# Altium schematic symbol library EstacionMetereologicaSCH.SchLib: 7 symbols
Pins are listed as number, name and electrical type; pins without a type are passive.

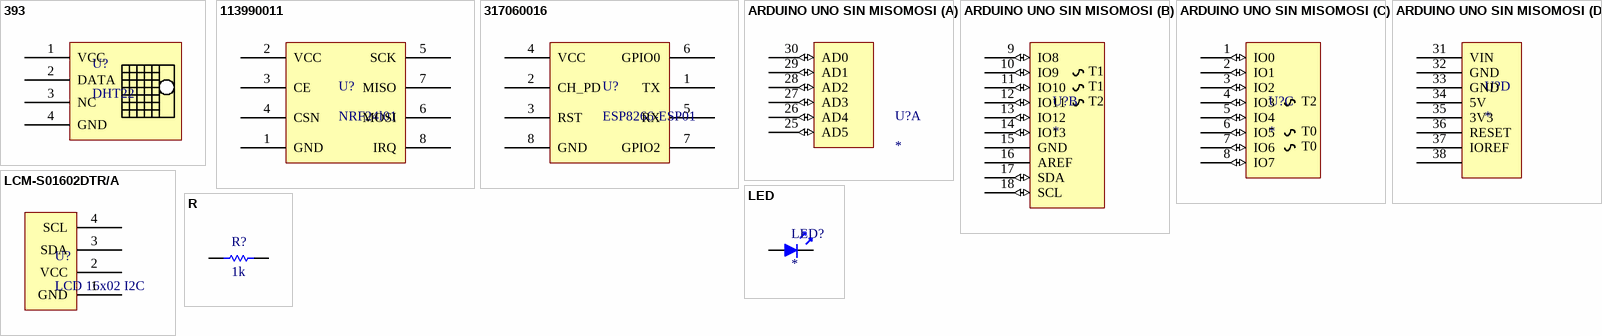
[diagram p0: symbols 393 to R]

## 393
designator U?, comment DHT22
SENSOR TEMP/HUMIDTY AM2302 DHT22; Manufacturer: Adafruit Industries LLC; Manufacturer Part Number: 393; Sensor Type: Humidity, Temperature; Humidity Range: 0 ~ 100% RH; Output Type: Digital; Output: 8b; Accuracy: ±2%; Response Time: 2s; Voltage - Supply: 3.3 V ~ 5.5 V; Supplier 1: Digi-Key; RoHS: RoHS Compliant; Category: Sensors, Transducers; Stock 1: 121; Pricing 1: 1=15, 10=13.5 (USD); Sensitivity: -; Mounting Type: Chassis Mount; Operating Temperature: -40°C ~ 80°C; ComponentLink1URL: http://www.adafruit.com/datasheets/Digital%20humidity%20and%20temperature%20sensor%20AM2302.pdf; ComponentLink1Description: http://www.adafruit.com/datasheets/Digital%20humidity%20and%20temperature%20sensor%20AM2302.pdf; Supplier Part Number 1: 1528-1229-ND
footprint DHT22
pins: 1 VCC, 2 DATA, 3 NC, 4 GND

## 113990011
designator U?, comment NRF24l01
NRF24L01+MODULE; Manufacturer: Seeed Technology Co., Ltd; Manufacturer Part Number: 113990011; RF Family/Standard: General ISM > 1GHZ; Modulation: GFSK; Frequency: 2.4GHz; Data Rate: 2Mbps; Power - Output: 0dBm; Sensitivity: -85dBm; Serial Interfaces: SPI; Antenna Type: Integrated, Trace; Voltage - Supply: 1.9 V ~ 3.6 V; Current - Receiving: 12.3mA; Current - Transmitting: 11.3mA; Supplier 1: Digi-Key; RoHS: RoHS Compliant; Category: RF/IF and RFID; Stock 1: 188; Pricing 1: 1=2.9 (USD); Packaging: Bulk; Protocol: -; Memory Size: -; Mounting Type: Surface Mount; Operating Temperature: -40°C ~ 85°C; Package / Case: 8-SMD Module; ComponentLink1URL: http://www.seeedstudio.com/document/pdf/DS_nRF24L01.pdf; ComponentLink1Description: http://www.seeedstudio.com/document/pdf/DS_nRF24L01.pdf; Supplier Part Number 1: 1597-1352-ND
pins: 1 GND, 2 VCC, 3 CE, 4 CSN, 5 SCK, 6 MOSI, 7 MISO, 8 IRQ

## 317060016
designator U?, comment ESP8266-ESP01
TXRX WIFI SER 1M ESP8266 32QFN; Manufacturer: Seeed Technology Co., Ltd; Manufacturer Part Number: 317060016; Protocol: 802.11b/g/n; Frequency: 2.4GHz ~ 2.48GHz; Data Rate: 72.2Mbps; Power - Output: 15dBm; Sensitivity: -98dBm; Serial Interfaces: SPI, UART; Antenna Type: Integrated, Trace; Voltage - Supply: 3.3V; Current - Receiving: 62mA; Current - Transmitting: 215mA; Supplier 1: Digi-Key; RoHS: RoHS Compliant; Category: RF/IF and RFID; Stock 1: 476; Pricing 1: 1=6.95 (USD); Packaging: Bulk; RF Family/Standard: WiFi; Modulation: -; Memory Size: -; Mounting Type: Surface Mount; Operating Temperature: -20°C ~ 100°C; Package / Case: Module; ComponentLink1URL: http://media.digikey.com/pdf/Data%20Sheets/Seeed%20Technology/317060016_Web.pdf; ComponentLink1Description: http://media.digikey.com/pdf/Data%20Sheets/Seeed%20Technology/317060016_Web.pdf; Supplier Part Number 1: 1597-1145-ND
footprint ESP8266
pins: 1 TX, 2 CH_PD, 3 RST, 4 VCC, 5 RX, 6 GPIO0, 7 GPIO2, 8 GND

## ARDUINO UNO SIN MISOMOSI
designator U?
footprint ARDUINO_SHIELD_SIN_MALE
part A pins: 25 AD5 (io), 26 AD4 (io), 27 AD3 (io), 28 AD2 (io), 29 AD1 (io), 30 AD0 (io)
part B pins: 9 IO8 (io), 10 IO9 (io), 11 IO10 (io), 12 IO11 (io), 13 IO12 (io), 14 IO13 (io), 15 GND (power), 16 AREF, 17 SDA (io), 18 SCL (io)
part C pins: 1 IO0 (io), 2 IO1 (io), 3 IO2 (io), 4 IO3 (io), 5 IO4 (io), 6 IO5 (io), 7 IO6 (io), 8 IO7 (io)
part D pins: 31 VIN (power), 32 GND (power), 33 GND (power), 34 5V (power), 35 3V3 (power), 36 RESET, 37 IOREF (power), 38
part B text: T1; T2
part C text: T2; T0

## LCM-S01602DTR/A
designator U?, comment LCD 16x02 I2C
LCD MODULE 16X2 CHARACTER; Manufacturer: Lumex Opto/Components Inc.; Manufacturer Part Number: LCM-S01602DTR/A; Number of Characters: 32; Character Format: 5 x 8 Dots; Display Type: TN - Twisted Nematic; Display Mode: Reflective; Character Size: 5.56mm H x 2.96mm W; Outline L x W x H: 80.00mm x 36.00mm x 8.80mm; Viewing Area: 66.00mm L x 16.00mm W; Backlight: Without Backlight; Voltage - Supply: 5V; Dot Size: 0.56mm W x 0.66mm H; Interface: Parallel; Background Color: Green; Supplier 1: Digi-Key; RoHS: RoHS Compliant; Category: Optoelectronics; Stock 1: 521; Pricing 1: 1=12.93, 10=11.707, 100=7.8048, 250=7.317, 500=6.70726, 1000=6.3414, 2500=6.0975, 5000=5.97555, 10000=5.8536 (USD); Display Format: 16 x 2; Operating Temperature: 0°C ~ 50°C; Text Color: -; ComponentLink1URL: http://media.digikey.com/pdf/Data%20Sheets/Lumex%20PDFs/LCM-x01602Dxx+A-page1%5B1%5D.pdf; ComponentLink1Description: http://media.digikey.com/pdf/Data%20Sheets/Lumex%20PDFs/LCM-x01602Dxx+A-page1%5B1%5D.pdf; Supplier Part Number 1: 67-1779-ND
footprint LCD I2C
pins: 1 GND, 2 VCC, 3 SDA, 4 SCL

## LED
designator LED?
LED; .Creator: SR; .PCBCheck: Used; .SCHCheck: Used
footprint LED 1206
pins: 1 A, 2 K

## R
designator R?, comment 1k
Resistencia; .Creator: SR; .PCBCheck: Used; .SCHCheck: Used; Category: Resistencias
footprint R 1206
pins: 1, 2